# EAGLE library part CNY74-2H (library den)
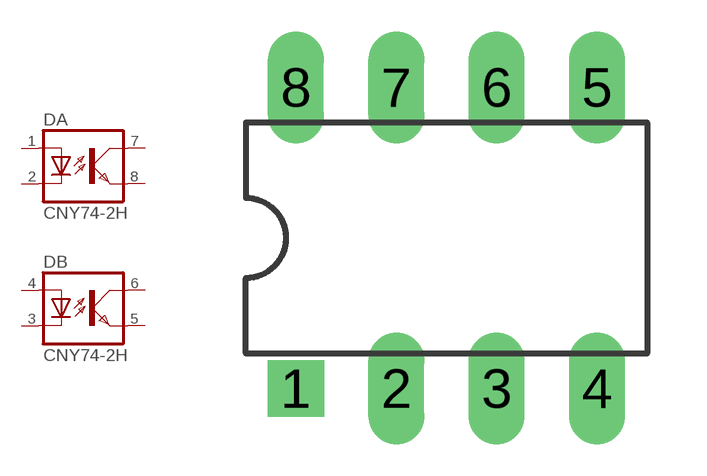
[diagram p4: symbol with the pads of DIL08; footprint DIL08]

Designator prefix D; gates A=OPTO-OK B=OPTO-OK

## CNY74-2H  [DIL08]
1  A:A  pas
2  A:C  pas
3  B:C  pas
4  B:A  pas
5  B:EMIT  pas
6  B:COL  pas
7  A:COL  pas
8  A:EMIT  pas

## Footprint DIL08 (pad centres in mm)
Dual In Line Package
drill 0.8 pad 1.422 square: 1 -3.81,-3.81
drill 0.8 pad 1.422 long: 2 -1.27,-3.81; 3 1.27,-3.81; 4 3.81,-3.81; 5 3.81,3.81; 6 1.27,3.81; 7 -1.27,3.81; 8 -3.81,3.81